# Altium footprint library composants actifs.pcblib: 52 footprints (part 4 of 4)
Each footprint in its own frame and in the unit in brackets; x right, y up, seen from the top. Pads: shape width x height; smd on the part's side, far side on the other; paste and mask are expansions set on the pad; w line width, h text height; cw(c..) or ccw(c..) is an arc to the next point about the centre after c.
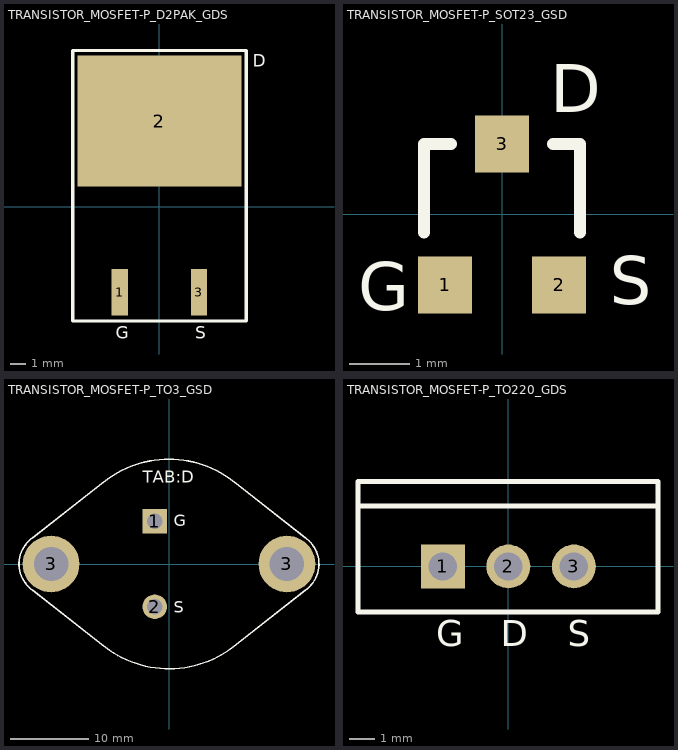
[diagram p3: the footprints below, top view; thin cyan lines are the x and y axes]

## TRANSISTOR_MOSFET-P_D2PAK_GDS [mm] "TRANSISTOR MOSFET CANAL P BOITIER D2PAK ; DIMENSIONS : 15.5mm x 10.5 mm"
height 4.69
pads (3):
  rect 1.05x3 smd: 1(-2.54,-5.5) 3(2.54,-5.5)
  rect 10.55x8.4 smd: 2(0,5.5)
Top Overlay:
  lines w0.2: -5.57,-7.35 -5.57,10.04 5.575,10.04 5.575,-7.35 -5.57,-7.35
  text "G" at -2.8,-8.5 h0.8
  text "S" at 2.3,-8.5 h0.8
  text "D" at 6,9 h0.8
3D body: height 4.98, standoff -0.03, extent -5.12,-6.162 5.04,9.102

## TRANSISTOR_MOSFET-P_SOT23_GSD [mm] "SOT23 ; DIMENSIONS : 3.0mm x 2.5 mm"
height 1.2
pads (3):
  rect 0.9x0.95 smd: 1(-0.95,-1.175) 2(0.95,-1.175) 3(0,1.175)
Top Overlay:
  lines w0.2: -1.3,-0.3 -1.3,1.175 -0.85,1.175 ; 0.85,1.175 1.3,1.175 1.3,-0.3
  text "G" at -2.4,-1.6 h0.8
  text "S" at 1.8,-1.5 h0.8
  text "D" at 0.8,1.7 h0.8
3D body: height 1.1, standoff 0, extent -1.5,-1.569 1.5,1.569

## TRANSISTOR_MOSFET-P_TO3_GSD [mm] "TRANSISTOR TO3 ; DIMENSIONS : 26.7mm x 38.3mm ; ESPACEMENT BROCHES : 10.92mm"
height 7.87
pads (4):
  rect 3.15x3.15 hole 2: 1(-1.815,5.46)
  round 3.15 hole 2: 2(-1.815,-5.46)
  round 7.25 hole 4.4: 3(-15.075,0) 3(15.075,0)
Top Overlay:
  lines w0.2: -17.427,-3.359 -8.299,-10.521 ; -17.427,-3.358 cw(c-15.075,0) -17.427,3.359 -8.299,10.521 ; -8.613,-10.265 ccw(c0,0) 8.298,-10.521 17.427,-3.359 ; -8.613,10.265 cw(c0,0) 8.613,10.265 ; 8.299,10.521 17.427,3.359 ; 17.308,3.439 cw(c15.075,0) 17.427,-3.358
  text "TAB:D" at -3.33,10.37 h1.52
  text "S" at 0.61,-6.23 h1.5
  text "G" at 0.63,4.83 h1.5
3D body: height 6.39, standoff -2.47, extent -19.7,-13.2 19.822,13.013

## TRANSISTOR_MOSFET-P_TO220_GDS [mm] "BOITIER TO220 ; DIMENSIONS : 11.2mm x 4.7mm ; ESPACEMENT BROCHES : 2.54 mm"
height 22.9
pads (3):
  rect 1.7x1.7 hole 1.1: 1(-2.54,0)
  round 1.7 hole 1.1: 2(0,0) 3(2.54,0)
Top Overlay:
  lines w0.2: -5.83,2.35 5.8,2.35 ; -5.83,-1.77 5.8,-1.77 5.8,3.29 -5.83,3.29 -5.83,-1.77
  text "G" at -2.8,-3.1 h1
  text "D" at -0.3,-3.1 h1
  text "S" at 2.3,-3.1 h1
3D body: height 19.33, standoff -10, extent -5.607,-1.59 5.607,3.1